# Altium schematic symbol library F407_CORE.SCHLIB: 25 symbols
Pins are listed as number, name and electrical type; pins without a type are passive.

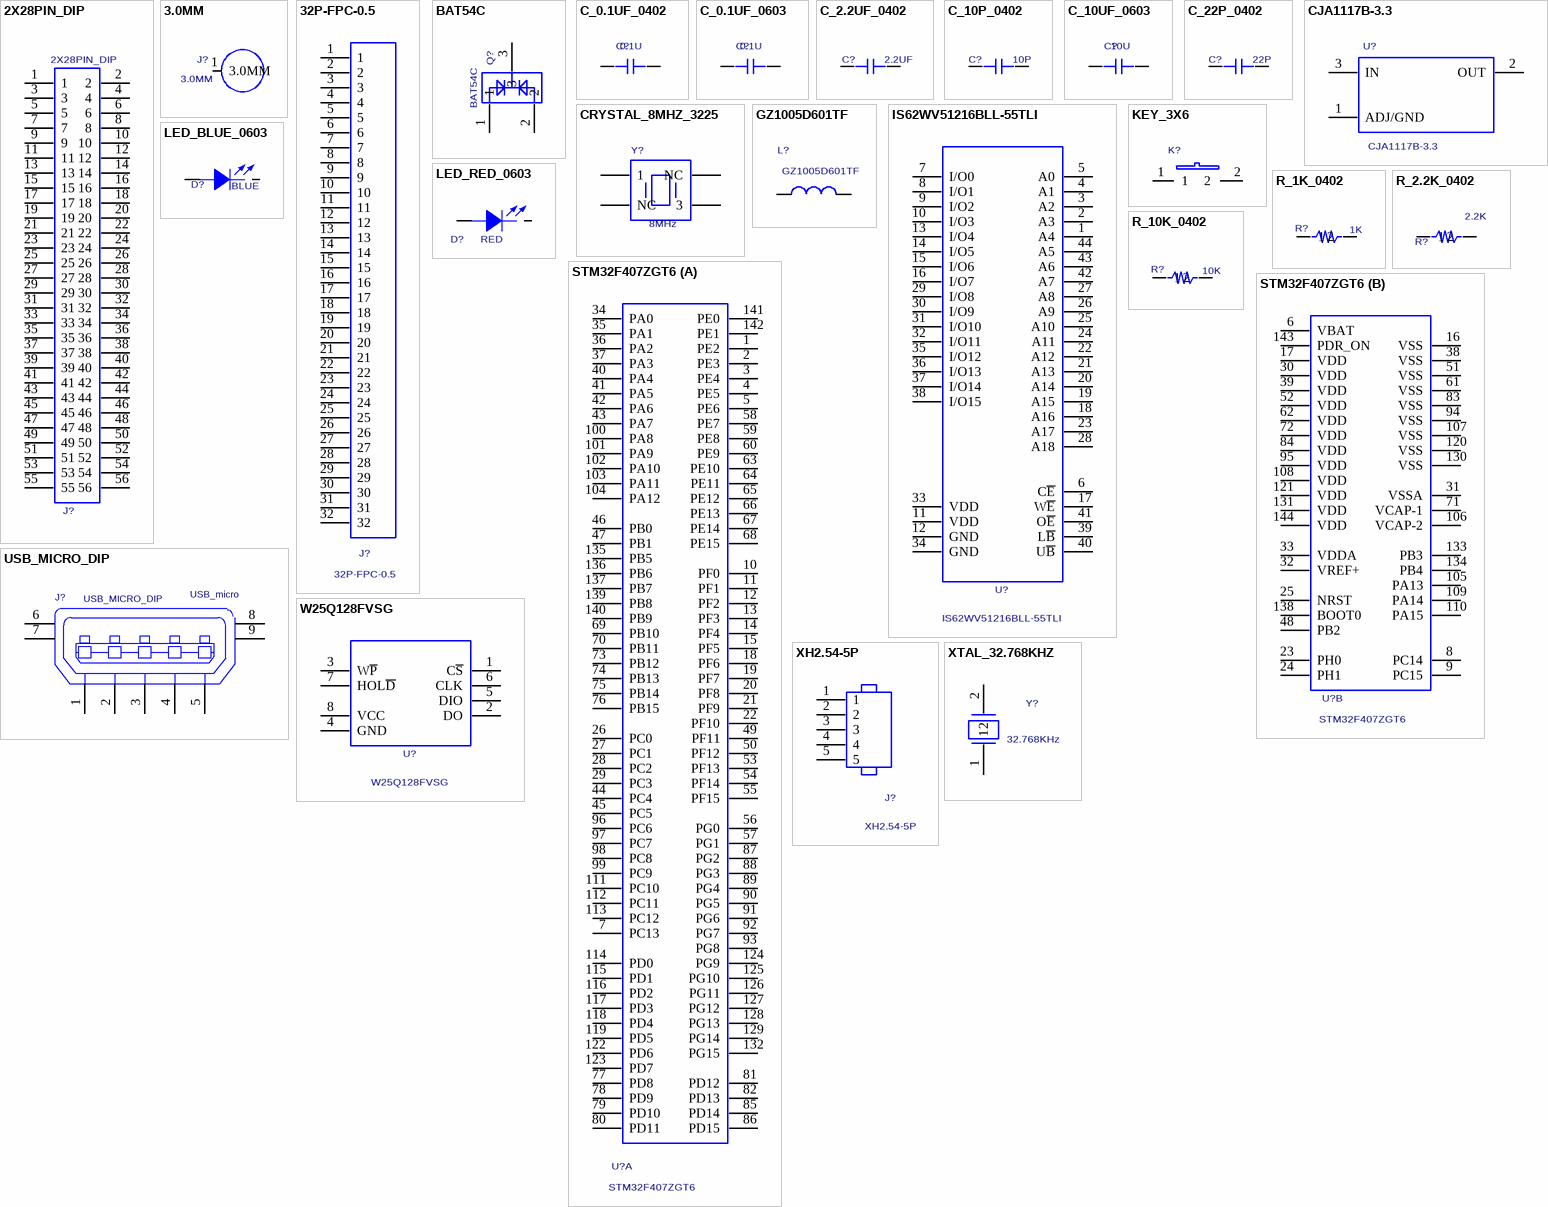
[diagram p0: symbols 2X28PIN_DIP to XTAL_32.768KHZ]

## 2X28PIN_DIP
designator J?
PCB DECAL: 2X28X2.54MM; value: 2X28PIN_DIP
footprint 2X28X2.54MM
pins: 1, 2, 3, 4, 5, 6, 7, 8, 9, 10, 11, 12, 13, 14, 15, 16, 17, 18, 19, 20, 21, 22, 23, 24, 25, 26, 27, 28, 29, 30, 31, 32, 33, 34, 35, 36, 37, 38, 39, 40, 41, 42, 43, 44, 45, 46, 47, 48, 49, 50, 51, 52, 53, 54, 55, 56

## 3.0MM
designator J?
PCB DECAL: 3.0MM
footprint 3.0MM
pins: 1 3.0MM

## 32P-FPC-0.5
designator J?
Value: 32P_FPC_0.5; PCB DECAL: 32P-FPC-0.5
footprint 32P-FPC-0.5
pins: 1, 2, 3, 4, 5, 6, 7, 8, 9, 10, 11, 12, 13, 14, 15, 16, 17, 18, 19, 20, 21, 22, 23, 24, 25, 26, 27, 28, 29, 30, 31, 32

## BAT54C
designator Q?
PCB DECAL: SOT-23; Value: BAT54C
footprint SOT-23
pins: 1, 2, 3

## C_0.1UF_0402
designator C?  value 0.1U  (hidden comment: C_0.1UF_0402)
PCB DECAL: SC0402
footprint SC0402
pins: 1, 2

## C_0.1UF_0603
designator C?  value 0.1U  (hidden comment: C_0.1UF_0603)
PCB DECAL: C_0603
footprint C_0603
pins: 1, 2

## C_2.2UF_0402
designator C?  value 2.2UF  (hidden comment: C_2.2UF_0402)
PCB DECAL: SC0402
footprint SC0402
pins: 1, 2

## C_10P_0402
designator C?  value 10P  (hidden comment: C_10P_0402)
PCB DECAL: SC0402
footprint SC0402
pins: 1, 2

## C_10UF_0603
designator C?  value 10U  (hidden comment: C_10UF_0603)
PCB DECAL: C_0603
footprint C_0603
pins: 1, 2

## C_22P_0402
designator C?  value 22P  (hidden comment: C_22P_0402)
PCB DECAL: SC0402
footprint SC0402
pins: 1, 2

## CJA1117B-3.3
designator U?
Manufacturer #1: JCST; PCB DECAL: SOT-89-3L; Value: CJA1117B-3.3
footprint SOT-89-3L
pins: 1 ADJ/GND, 2 OUT, 3 IN

## CRYSTAL_8MHZ_3225
designator Y?  value 8MHz  (hidden comment: CRYSTAL_8MHZ_3225)
PCB DECAL: 3225
footprint 3225
pins: 1, 2 NC, 3, 4 NC

## GZ1005D601TF
designator L?
PCB DECAL: SR0402; Value: GZ1005D601TF
footprint SR0402
pins: 1, 2

## IS62WV51216BLL-55TLI
designator U?
TSOP-II,2.5V - 3.6V, 512K x 16,55ns; Manufacturer #1 PN: IS62WV51216BLL-55TI; Manufacturer #1: ISSI; Value: IS62WV51216BLL-55TI; PCB DECAL: TSOP44-0.8MM; Tolerance: 55ns
footprint TSOP44-0.8MM
pins: 1 A4, 2 A3, 3 A2, 4 A1, 5 A0, 6 C~{E}, 7 I/O0, 8 I/O1, 9 I/O2, 10 I/O3, 11 VDD, 12 GND, 13 I/O4, 14 I/O5, 15 I/O6, 16 I/O7, 17 W~{E}, 18 A16, 19 A15, 20 A14, 21 A13, 22 A12, 23 A17, 24 A11, 25 A10, 26 A9, 27 A8, 28 A18, 29 I/O8, 30 I/O9, 31 I/O10, 32 I/O11, 33 VDD, 34 GND, 35 I/O12, 36 I/O13, 37 I/O14, 38 I/O15, 39 L~{B}, 40 U~{B}, 41 O~{E}, 42 A7, 43 A6, 44 A5

## KEY_3X6
designator K?  (value not drawn)
Manufacturer #1 PN: KEY; PCB DECAL: SW3/6-SMD
footprint SW3/6-SMD
pins: 1, 2

## LED_BLUE_0603
designator D?  value BLUE  (hidden comment: LED_BLUE_0603)
PCB DECAL: LED_0603
footprint LED_0603
pins: A ANODE, K CATHODE

## LED_RED_0603
designator D?  value RED  (hidden comment: LED_RED_0603)
PCB DECAL: LED_0603
footprint LED_0603
pins: A ANODE, K CATHODE

## R_1K_0402
designator R?  value 1K  (hidden comment: R_1K_0402)
PCB DECAL: SR0402
footprint SR0402
pins: 1, 2

## R_2.2K_0402
designator R?  value 2.2K  (hidden comment: R_2.2K_0402)
PCB DECAL: SR0402
footprint SR0402
pins: 1, 2

## R_10K_0402
designator R?  value 10K  (hidden comment: R_10K_0402)
PCB DECAL: SR0402
footprint SR0402
pins: 1, 2

## STM32F407ZGT6
designator U?
PCB DECAL: LC-LQFP-144_20X20X05P; Value: STM32F407ZG
footprint LC-LQFP-144_20X20X05P
part A pins: 1 PE2, 2 PE3, 3 PE4, 4 PE5, 5 PE6, 7 PC13, 10 PF0, 11 PF1, 12 PF2, 13 PF3, 14 PF4, 15 PF5, 18 PF6, 19 PF7, 20 PF8, 21 PF9, 22 PF10, 26 PC0, 27 PC1, 28 PC2, 29 PC3, 34 PA0, 35 PA1, 36 PA2, 37 PA3, 40 PA4, 41 PA5, 42 PA6, 43 PA7, 44 PC4, 45 PC5, 46 PB0, 47 PB1, 49 PF11, 50 PF12, 53 PF13, 54 PF14, 55 PF15, 56 PG0, 57 PG1, 58 PE7, 59 PE8, 60 PE9, 63 PE10, 64 PE11, 65 PE12, 66 PE13, 67 PE14, 68 PE15, 69 PB10, 70 PB11, 73 PB12, 74 PB13, 75 PB14, 76 PB15, 77 PD8, 78 PD9, 79 PD10, 80 PD11, 81 PD12, 82 PD13, 85 PD14, 86 PD15, 87 PG2, 88 PG3, 89 PG4, 90 PG5, 91 PG6, 92 PG7, 93 PG8, 96 PC6, 97 PC7, 98 PC8, 99 PC9, 100 PA8, 101 PA9, 102 PA10, 103 PA11, 104 PA12, 111 PC10, 112 PC11, 113 PC12, 114 PD0, 115 PD1, 116 PD2, 117 PD3, 118 PD4, 119 PD5, 122 PD6, 123 PD7, 124 PG9, 125 PG10, 126 PG11, 127 PG12, 128 PG13, 129 PG14, 132 PG15, 135 PB5, 136 PB6, 137 PB7, 139 PB8, 140 PB9, 141 PE0, 142 PE1
part B pins: 6 VBAT, 8 PC14, 9 PC15, 16 VSS, 17 VDD, 23 PH0, 24 PH1, 25 NRST, 30 VDD, 31 VSSA, 32 VREF+, 33 VDDA, 38 VSS, 39 VDD, 48 PB2, 51 VSS, 52 VDD, 61 VSS, 62 VDD, 71 VCAP-1, 72 VDD, 83 VSS, 84 VDD, 94 VSS, 95 VDD, 105 PA13, 106 VCAP-2, 107 VSS, 108 VDD, 109 PA14, 110 PA15, 120 VSS, 121 VDD, 130 VSS, 131 VDD, 133 PB3, 134 PB4, 138 BOOT0, 143 PDR_ON, 144 VDD

## USB_MICRO_DIP
designator J?  value USB_micro
PCB DECAL: MICRO_USB_5S
footprint MICRO_USB_5S
pins: 1 VBUS, 2 D-, 3 D+, 4 ID, 5 GND, 6 GND, 7 GND, 8 GND, 9 GND

## W25Q128FVSG
designator U?
PCB DECAL: W25Q128; value: W25Q128FVSG
footprint W25Q128
pins: 1 C~{S}, 2 DO, 3 W~{P}, 4 GND, 5 DIO, 6 CLK, 7 HOL~{D}, 8 VCC

## XH2.54-5P
designator J?
PCB DECAL: XH2.54-5P; Value: XH2.54-5P
footprint XH2.54-5P
pins: 1, 2, 3, 4, 5

## XTAL_32.768KHZ
designator Y?  value 32.768KHz  (hidden comment: XTAL_32.768KHZ)
PCB DECAL: 3215
footprint 3215
pins: 1, 2